# EAGLE library part AT24CS01 (library C3-General)
Atmel AT24CS01 128x8 I2C UID EEPROM
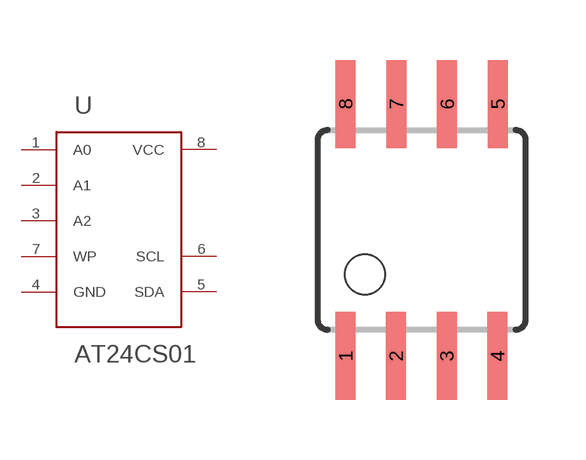
[diagram p0: symbol with the pads of EIAJ-SOIC8; footprint EIAJ-SOIC8]

Designator prefix -

## AT24CS01SSHM  [EIAJ-SOIC8]
1  A0
2  A1
3  A2
4  GND
5  SDA
6  SCL
7  WP
8  VCC

## Footprint EIAJ-SOIC8 (pad centres in mm)
Wide Plastic Gull Wing Small Outline Package
smd 0.5 x 2.2: 1 -1.905,-3.154; 2 -0.645,-3.154; 3 0.625,-3.154; 4 1.895,-3.154; 5 1.905,3.154; 6 0.635,3.154; 7 -0.635,3.154; 8 -1.905,3.154